# Altium schematic symbol library LTC4412.SchLib: 1 symbol
Pins are listed as number, name and electrical type; pins without a type are passive.

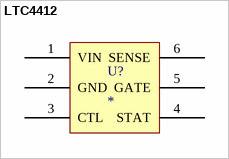
[diagram p0: symbol LTC4412]

## LTC4412
designator U?
LTC4412/LTC4412HV Low Loss PowerPath Controller; Manufacturer: Linear Technology; Vendor: Linear; Part No.: LTC4412HV; Price Est.: $1.93
footprint SOT23-6 (SOT-457/SC-74; 6 Leads; Body 3 x 3 mm, inc. leads (LxW max))
pins: 1 VIN, 2 GND, 3 CTL, 4 STAT, 5 GATE, 6 SENSE